# Altium schematic symbol library me218_ruler.SchLib: 2 symbols
Pins are listed as number, name and electrical type; pins without a type are passive.

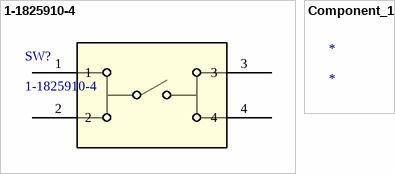
[diagram p0: symbols 1-1825910-4 to Component_1]

## 1-1825910-4
designator SW?
FSM8JH=6MM TACT SWITCH, HIGH TEMP; Manufacturer_Name: TE Connectivity; Copyright: Copyright (C) 2025 Ultra Librarian. All rights reserved.; Manufacturer_Part_Number: 1-1825910-4; RefDes: RefDes; Type: Type
footprint SW4_1825910-D_TEC
pins: 1, 2, 3, 4

## Component_1
designator *